# Altium footprint library BOURNS_RLB0913-122K.PcbLib: 1 footprints
Each footprint in its own frame and in the unit in brackets; x right, y up, seen from the top. Pads: shape width x height; smd on the part's side, far side on the other; paste and mask are expansions set on the pad; w line width, h text height; cw(c..) or ccw(c..) is an arc to the next point about the centre after c.
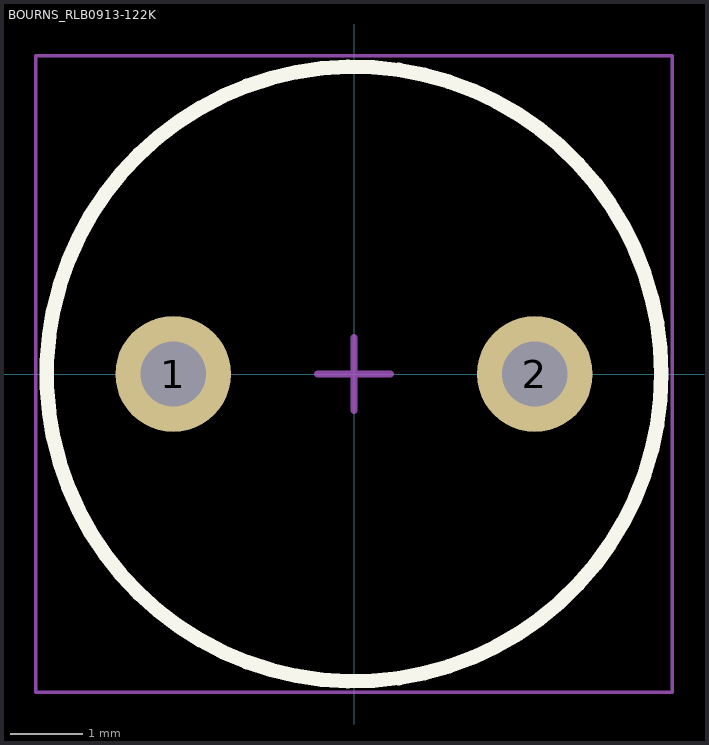
[diagram p0: the footprint, top view; thin cyan lines are the x and y axes]

## BOURNS_RLB0913-122K [mm] "BOURNS_RLB0913-122K"
height 12.5
pads (2):
  round 1.6 hole 0.9 mask+0.05: 1(-2.5,0) 2(2.5,0)
Top Overlay:
  circle w0.2: c0,0 r4.25
Mechanical 13:
  circle w0.1: c0,0 r4.25
Mechanical 15:
  lines w0.05: -4.4,-4.4 4.4,-4.4 4.4,4.4 -4.4,4.4 -4.4,-4.4
  lines w0.1: -0.5,0 0.5,0 ; 0,-0.5 0,0.5
3D body: height 12.5, standoff 0, extent -4.25,-4.25 4.25,4.25